# EAGLE library part MT9V034_MODULE (library MT9V034_MODULE)
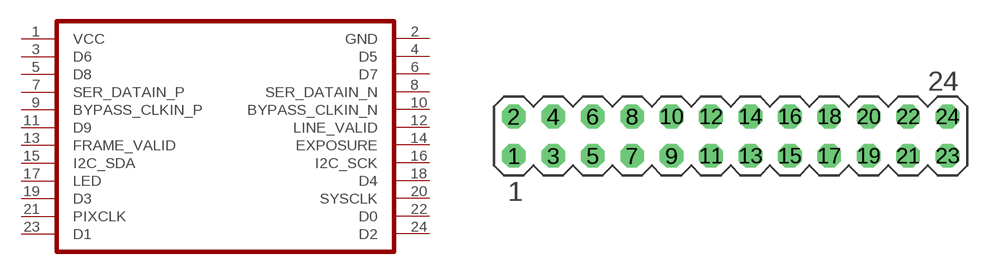
[diagram p0: symbol with the pads of MA12-2; footprint MA12-2]

Designator prefix -

## MT9V034_MODULE  [MA12-2]
1  VCC
2  GND
3  D6
4  D5
5  D8
6  D7
7  SER_DATAIN_P
8  SER_DATAIN_N
9  BYPASS_CLKIN_P
10  BYPASS_CLKIN_N
11  D9
12  LINE_VALID
13  FRAME_VALID
14  EXPOSURE
15  I2C_SDA
16  I2C_SCK
17  LED
18  D4
19  D3
20  SYSCLK
21  PIXCLK
22  D0
23  D1
24  D2

## Footprint MA12-2 (pad centres in mm)
drill 1.016 octagon: 1 -13.97,-1.27; 2 -13.97,1.27; 3 -11.43,-1.27; 4 -11.43,1.27; 5 -8.89,-1.27; 6 -8.89,1.27; 7 -6.35,-1.27; 8 -6.35,1.27; 9 -3.81,-1.27; 10 -3.81,1.27; 11 -1.27,-1.27; 12 -1.27,1.27; 13 1.27,-1.27; 14 1.27,1.27; 15 3.81,-1.27; 16 3.81,1.27; 17 6.35,-1.27; 18 6.35,1.27; 19 8.89,-1.27; 20 8.89,1.27; 21 11.43,-1.27; 22 11.43,1.27; 23 13.97,-1.27; 24 13.97,1.27